# EAGLE library part SRV05-4 (library diode)
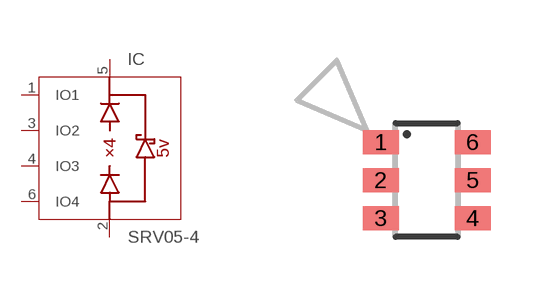
[diagram p1: symbol with the pads of SOT23-6; footprint SOT23-6]

Designator prefix IC

## SRV05-4MR6T1G (MARK: 63; MF: ON Semiconductor; MPN: SRV05-4MR6T1G)  [SOT23-6]
1  IO1  in
2  GND  pwr
3  IO2  in
4  IO3  in
5  VCC  pwr
6  IO4  in

## SRV05-4HTG (MARK: L*4; MF: LITTELFUSE; MPN: SRV05-4HTG)  [SOT23-6]
Pads as for SOT23-6

## SRV05-4-N (MARK: V5L; MF: BORN; MPN: SRV05-4-N)  [SOT23-6]
Pads as for SOT23-6

## Footprint SOT23-6 (pad centres in mm)
Small Outline Transistor 6 lead
smd 0.9 x 0.6: 1 -1.15,0.95; 2 -1.15,0; 3 -1.15,-0.95; 4 1.15,-0.95; 5 1.15,0; 6 1.15,0.95